# Altium footprint library merci.PcbLib: 4 footprints
Each footprint in its own frame and in the unit in brackets; x right, y up, seen from the top. Pads: shape width x height; smd on the part's side, far side on the other; paste and mask are expansions set on the pad; w line width, h text height; cw(c..) or ccw(c..) is an arc to the next point about the centre after c.
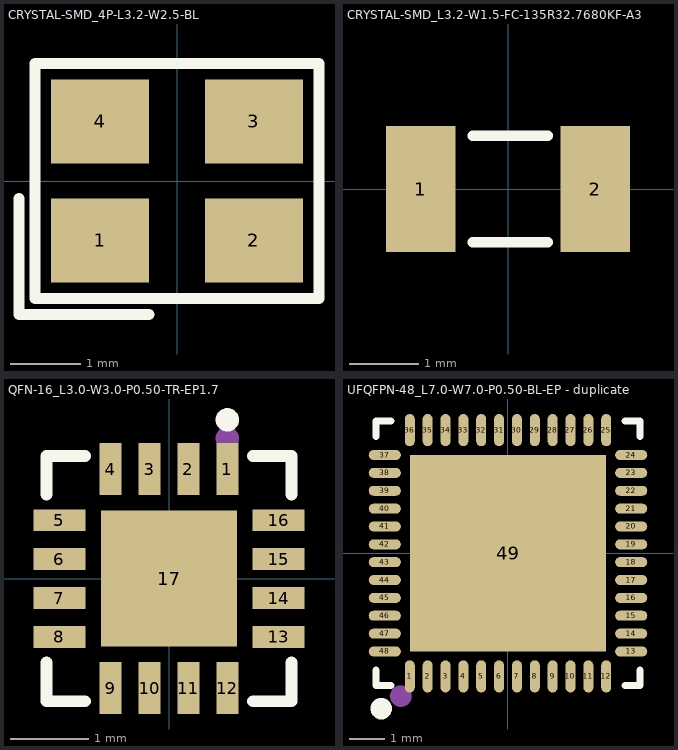
[diagram p0: the footprints below, top view; thin cyan lines are the x and y axes]

## CRYSTAL-SMD_4P-L3.2-W2.5-BL [mm]
pads (4):
  rect 1.4x1.2 smd: 1(-1.1,-0.85) 2(1.1,-0.85) 3(1.1,0.85) 4(-1.1,0.85)
Top Overlay:
  lines w0.152: -2.257,-0.25 -2.257,-1.907 -0.4,-1.907 ; -2.029,-1.678 -2.029,1.679 2.029,1.679 2.029,-1.678 -2.029,-1.678
Mechanical 15:
  circle w0.36: c-1.143,-0.889 r0.18
3D body "tsx-3225.SLDPRT": height 0.6, standoff 0, extent -1.549,-1.25 1.651,1.25

## CRYSTAL-SMD_L3.2-W1.5-FC-135R32.7680KF-A3 [mm]
pads (2):
  rect 1x1.8 smd: 1(-1.25,0) 2(1.25,0)
Top Overlay:
  lines w0.15: -0.508,-0.762 0.571,-0.762 ; -0.508,0.762 0.571,0.762
3D body "crystal_rtf3215.stp": height 0.9, standoff -0.01, extent -1.6,-0.75 1.6,0.75

## QFN-16_L3.0-W3.0-P0.50-TR-EP1.7 [mm]
pads (17):
  rect 0.28x0.665 smd: 1(0.75,1.407) 2(0.25,1.407) 3(-0.25,1.407) 4(-0.75,1.407) 9(-0.75,-1.407) 10(-0.25,-1.407) 11(0.25,-1.407) 12(0.75,-1.407)
  rect 0.665x0.28 smd: 5(-1.407,0.75) 6(-1.407,0.25) 7(-1.407,-0.25) 8(-1.407,-0.75) 13(1.407,-0.75) 14(1.407,-0.25) 15(1.407,0.25) 16(1.407,0.75)
  rect 1.75x1.75 smd: 17(0,0)
Top Overlay:
  circle w0.15: c0.75,2.04 r0.075
  lines w0.152: -1.576,-1.08 -1.576,-1.576 -1.08,-1.576 ; -1.576,1.08 -1.576,1.576 -1.08,1.576 ; 1.08,-1.576 1.576,-1.576 1.576,-1.08 ; 1.08,1.576 1.576,1.576 1.576,1.08
Mechanical 15:
  circle w0.15: c0.75,1.8 r0.075
3D body "User Library-QFN-16.SLDPRT": height -0.36, standoff -1.26, extent -1.501,-1.501 1.501,1.501

## UFQFPN-48_L7.0-W7.0-P0.50-BL-EP - duplicate [mm]
pads (49):
  oval 0.28x0.9 smd: 1(-2.751,-3.449) 2(-2.25,-3.449) 3(-1.75,-3.449) 4(-1.25,-3.449) 5(-0.749,-3.449) 6(-0.249,-3.449) 7(0.249,-3.449) 8(0.749,-3.449) 9(1.25,-3.449) 10(1.75,-3.449) 11(2.251,-3.449) 12(2.751,-3.449) 25(2.751,3.449) 26(2.251,3.449) 27(1.75,3.449) 28(1.25,3.449) 29(0.749,3.449) 30(0.249,3.449) 31(-0.249,3.449) 32(-0.749,3.449) 33(-1.25,3.449) 34(-1.75,3.449) 35(-2.25,3.449) 36(-2.751,3.449)
  oval 0.9x0.28 smd: 13(3.449,-2.751) 14(3.449,-2.25) 15(3.449,-1.75) 16(3.449,-1.25) 17(3.449,-0.749) 18(3.449,-0.249) 19(3.449,0.249) 20(3.449,0.749) 21(3.449,1.25) 22(3.449,1.75) 23(3.449,2.25) 24(3.449,2.751) 37(-3.449,2.751) 38(-3.449,2.25) 39(-3.449,1.75) 40(-3.449,1.25) 41(-3.449,0.749) 42(-3.449,0.249) 43(-3.449,-0.249) 44(-3.449,-0.749) 45(-3.449,-1.25) 46(-3.449,-1.75) 47(-3.449,-2.25) 48(-3.449,-2.751)
  rect 5.5x5.5 smd: 49(0,0)
Top Overlay:
  lines w0.2: -3.7,-3.275 -3.7,-3.7 -3.275,-3.7 ; -3.7,3.275 -3.7,3.7 -3.275,3.7 ; 3.275,-3.7 3.7,-3.7 3.7,-3.275 ; 3.275,3.7 3.7,3.7 3.7,3.275
  lines w0.3: -3.551,-4.201 ccw(c-3.55,-4.351) -3.548,-4.201
Mechanical 15:
  circle w0.3: c-3,-4 r0.15
3D body "ALSRobot-QFN48 7x7.SLDPRT": height 0.78, standoff -0.02, extent -3.485,-3.485 3.535,3.535